# Altium footprint library 野火_EBF6ULL S1 Mini 底板_V1.0_PCB封装_AD格式.PcbLib: 29 footprints (part 2 of 2)
Each footprint in its own frame and in the unit in brackets; x right, y up, seen from the top. Pads: shape width x height; smd on the part's side, far side on the other; paste and mask are expansions set on the pad; w line width, h text height; cw(c..) or ccw(c..) is an arc to the next point about the centre after c.
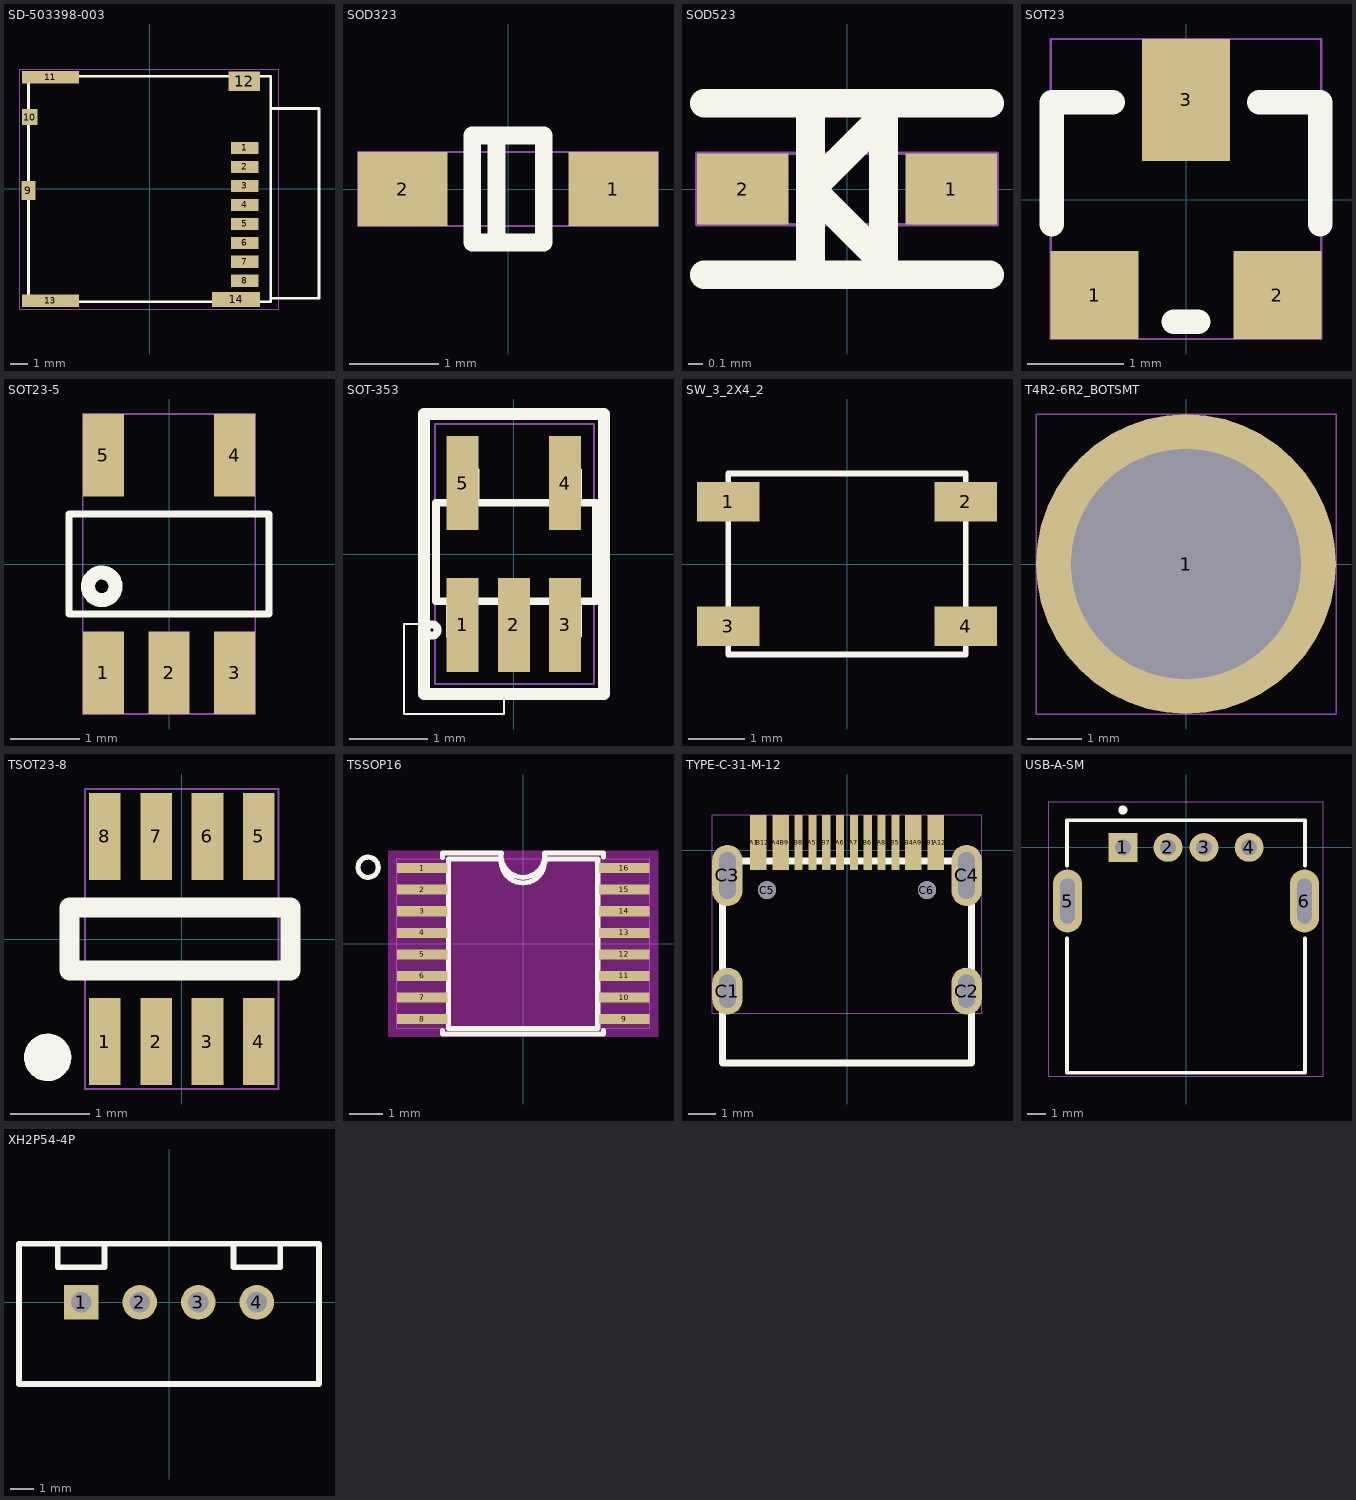
[diagram p1: the footprints below, top view; thin cyan lines are the x and y axes]

## SD-503398-003 [mm]
pads (14):
  rect 1.6x0.7 smd mask+0.05: 1(5.515,2.38) 2(5.515,1.28) 3(5.515,0.18) 4(5.515,-0.92) 5(5.515,-2.02) 6(5.515,-3.12) 7(5.515,-4.22) 8(5.515,-5.32)
  rect 0.8x1.1 smd mask+0.05: 9(-7.025,-0.095)
  rect 0.914x0.914 smd mask+0.051: 10(-6.95,4.17)
  rect 3.33x0.7 smd mask+0.051: 11(-5.75,6.48) 13(-5.75,-6.48)
  rect 1.83x1.138 smd mask+0.051: 12(5.5,6.26)
  rect 2.8x0.86 smd mask+0.051: 14(5.015,-6.4)
Top Overlay:
  lines w0.152: -7.025,-6.55 -7.025,6.55 7.025,6.55 7.025,-6.55 -7.025,-6.55 ; 7.025,-6.33 7.025,4.67 9.825,4.67 9.825,-6.33 7.025,-6.33
Top Assembly:
  text "J14" at -1.385,-0.635 h1.27
Mechanical 16:
  lines w0.025: -7.526,-6.985 -7.526,6.96 7.493,6.96 7.493,-6.985 -7.526,-6.985

## SOD323 [mm]
pads (2):
  rect 1x0.83 smd mask+0.05: 1(1.18,0) 2(-1.18,0)
Top Overlay:
  lines w0.2: -0.13,-0.6 -0.13,0.6 ; -0.4,-0.6 -0.4,0.6 0.4,0.6 0.4,-0.6 -0.4,-0.6
Top Assembly:
  text "Z4" at 1.019,0.635 h1.27
Mechanical 16:
  lines w0.025: -1.68,-0.415 1.68,-0.415 1.68,0.415 -1.68,0.415 -1.68,-0.415

## SOD523 [mm]
pads (2):
  rect 0.64x0.5 smd mask+0.05: 1(0.73,0) 2(-0.73,0)
Top Overlay:
  lines w0.2: -1,-0.6 1,-0.6 ; -1,0.6 1,0.6
  lines w0.203: -0.254,-0.508 -0.254,0.508 ; -0.254,0 0.254,-0.508 0.254,0.508 -0.254,0
Top Assembly:
  text "D9" at 0.958,0.635 h1.27
Mechanical 16:
  lines w0.025: -1.05,-0.25 1.05,-0.25 1.05,0.25 -1.05,0.25 -1.05,-0.25

## SOT23 [mil]
pads (3):
  rect 36x36 smd mask+1.97: 1(-37.5,-39) 2(37.5,-39)
  rect 36x50 smd mask+1.97: 3(0,41)
Top Overlay:
  lines w10: -55,-10 -55,40 -30,40 ; -5,-50 5,-50 ; 30,40 55,40 55,-10
Top Assembly:
  text "Q8" at -41.54,-27.38 h50
Mechanical 16:
  lines w1: -55.5,-57 55.5,-57 55.5,66 -55.5,66 -55.5,-57

## SOT23-5 [mm]
pads (5):
  rect 0.6x1.2 smd mask+0.05: 1(-0.95,-1.575) 2(0,-1.575) 3(0.95,-1.575) 4(0.95,1.575) 5(-0.95,1.575)
Top Overlay:
  circle w0.203: c-0.975,-0.325 r0.2
  lines w0.102: -1.45,-0.725 -1.45,0.475 -1.45,0.725 1.45,0.725 1.45,0.475 1.45,-0.725 -1.45,-0.725
Top Assembly:
  text "U3" at -1.022,-0.635 h1.27
Mechanical 16:
  lines w0.025: -1.25,-2.175 1.25,-2.175 1.25,2.175 -1.25,2.175 -1.25,-2.175

## SOT-353 [mil]
pads (5):
  rect 16x47 smd mask+3: 1(-25.59,-35.43) 2(0,-35.43) 3(25.59,-35.43) 4(25.59,35.43) 5(-25.59,35.43)
Top Overlay:
  circle w3.94: c-41,-38 r2.83
  lines w1: -55,-80 -5,-80 -5,-70 -45,-70 -45,-35 -55,-35 -55,-80
  lines w3.94: -32,-24 -32,-40.83 -20,-40.83 ; -31.18,26 -31.18,40.83 ; -31.18,41.83 -19.18,41.83 -19.18,26 ; -20,-40 -20,-25 ; -6,-24 -6,-40.83 6,-40.83 ; 6,-40 6,-24 ; 20,-24 20,-40.83 32,-40.83 ; 20,26 20,41 ; 20,41.83 32,41.83 32,26 ; 32,-40 32,-24 ; -39,-23.61 -39,25.61 41,25.61 41,-23.61 -39,-23.61
  lines w6: -45,-70 -45,70 45,70 45,-70 -45,-70
Top Assembly:
  text "U8" at 40.23,25 h50
Mechanical 16:
  lines w1: -39.37,-65 -39.37,65 40,65 40,-65 -39.37,-65

## SW_3_2X4_2 [mm]
pads (4):
  rect 1.1x0.7 smd mask+0.05: 1(-2.1,1.1) 2(2.1,1.1) 3(-2.1,-1.1) 4(2.1,-1.1)
Top Overlay:
  lines w0.1: -2.1,-1.6 -2.1,1.6 2.1,1.6 2.1,-1.6 -2.1,-1.6
Top Assembly:
  text "SW4" at 1.75,0.635 h1.27
Mechanical 16:
  lines w0.025: -2.103,-1.582 2.118,-1.582 2.118,1.598 -2.103,1.598 -2.103,-1.582

## T4R2-6R2_BOTSMT [mm]
pads (1):
  round 5.5 / inner round 5.5 / far side round 6.2 hole 4.22 mask+0.05: 1(0,0)
Top Assembly:
  text "H4" at 1.052,0.635 h1.27
Mechanical 16:
  lines w0.025: -2.75,-2.75 2.75,-2.75 2.75,2.75 -2.75,2.75 -2.75,-2.75

## TSOT23-8 [mm]
pads (8):
  rect 0.4x1.1 smd mask+0.051: 1(-0.975,-1.3) 2(-0.325,-1.3) 3(0.325,-1.3) 4(0.975,-1.3) 5(0.975,1.3) 6(0.325,1.3) 7(-0.325,1.3) 8(-0.975,1.3)
Top Overlay:
  circle w0.3: c-1.7,-1.5 r0.15
  lines w0.254: -1.425,-0.4 -1.425,0.4 1.375,0.4 1.375,-0.4 -1.425,-0.4
Top Assembly:
  text "U4" at 1.052,0.635 h1.27
Mechanical 16:
  lines w0.025: -1.226,-1.901 1.226,-1.901 1.226,1.901 -1.226,1.901 -1.226,-1.901

## TSSOP16 [mil]
pads (16):
  rect 60x12 smd mask+2: 1(-120,89.6) 2(-120,64) 3(-120,38.4) 4(-120,12.8) 5(-120,-12.8) 6(-120,-38.4) 7(-120,-64) 8(-120,-89.6) 9(120,-89.6) 10(120,-64) 11(120,-38.4) 12(120,-12.8) 13(120,12.8) 14(120,38.4) 15(120,64) 16(120,89.6)
Top Layer keep-out:
  region: -160,-110.5 -160,110.5 160,110.5 160,-110.5
Top Overlay:
  circle w5.98: c-184.02,90.59 r12.02
  lines w6: -95.5,-103 -95.5,-107.5 95.5,-107.5 95.5,-103 ; -95.5,102.5 -95.5,107.5 -26.25,107.5 ; -26,100.5 ccw(c-0.25,97.88) 25.5,100.5 88.5,100.5 88.5,-100.5 -88.5,-100.5 -88.5,100.5 -25.5,100.5 ; -26,107.52 ccw(c-0.25,104.63) 25.5,107.47 ; 25.5,107.5 95.5,107.5 95.5,103
Top Assembly:
  text "U12" at 58.56,25 h50
Mechanical 16:
  lines w1: -150,-100.5 150,-100.5 150,100.5 -150,100.5 -150,-100.5

## TYPE-C-31-M-12 [mm]
pads (22):
  rect 0.3x2 smd mask+0.05: A1(-3.35,0.275) A4(-2.55,0.275) A5(-1.25,0.275) A6(-0.25,0.275) A7(0.25,0.275) A8(1.25,0.275) A9(2.55,0.275) A12(3.35,0.275) B1(3.05,0.275) B4(2.25,0.275) B5(1.75,0.275) B6(0.75,0.275) B7(-0.75,0.275) B8(-1.75,0.275) B9(-2.25,0.275) B12(-3.05,0.275)
  oval 1.1x1.7 hole 0.6 slot 1.2 at 90 deg mask+0.05: C1(-4.32,-5.095) C2(4.32,-5.095)
  oval 1.1x2.2 hole 0.6 slot 1.7 at 90 deg mask+0.05: C3(-4.32,-0.915) C4(4.32,-0.915)
  round 0.65 hole 0.65 unplated mask+0.05: C5(-2.89,-1.445) C6(2.89,-1.445)
Top Overlay:
  lines w0.254: -4.5,-7.695 -4.5,-0.395 4.5,-0.395 4.5,-7.695 -4.5,-7.695
Top Assembly:
  text "J3" at -0.889,-0.635 h1.27
Mechanical 16:
  lines w0.025: -4.87,-5.895 4.87,-5.895 4.87,1.275 -4.87,1.275 -4.87,-5.895

## USB-A-SM [mm]
pads (6):
  rect 1.6x1.6 / inner round 1.6 / far side rect 1.6x1.6 hole 0.9 mask+0.051: 1(-3.5,0)
  round 1.6 hole 0.9 mask+0.051: 2(-1,0) 3(1,0) 4(3.5,0)
  oval 1.6x3.5 hole 0.8 slot 2.5 at 90 deg mask+0.05: 5(-6.57,-2.974) 6(6.57,-2.974)
Top Overlay:
  circle w0.25: c-3.5,2.075 r0.125
  lines w0.2: -6.6,-5.032 -6.6,-12.5 6.6,-12.5 6.6,-5.032 ; -6.6,-1.016 -6.6,1.5 6.6,1.5 6.6,-1.016
Top Assembly:
  text "J10" at 1.354,0.635 h1.27
Mechanical 16:
  lines w0.025: -7.62,-12.7 -7.62,2.54 7.62,2.54 7.62,-12.7 -7.62,-12.7

## XH2P54-4P [mm]
pads (4):
  rect 1.5x1.5 / inner round 1.5 / far side rect 1.5x1.5 hole 0.9 mask+0.05: 1(-3.81,0)
  round 1.5 hole 0.9 mask+0.05: 2(-1.27,0) 3(1.27,0) 4(3.81,0)
Top Overlay:
  lines w0.254: -6.51,-3.54 -6.51,2.54 6.51,2.54 6.51,-3.54 -6.51,-3.54 ; -4.826,1.524 -4.826,2.54 -2.794,2.54 -2.794,1.524 -4.826,1.524 ; 2.794,1.524 2.794,2.54 4.826,2.54 4.826,1.524 2.794,1.524
Top Assembly:
  text "J15" at 1.354,0.635 h1.27
Mechanical 16:
  lines w0.025: -6.477,-3.556 -6.477,2.54 6.477,2.54 6.477,-3.556 -6.477,-3.556